# Altium footprint library Mechanical.PcbLib: 8 footprints
Each footprint in its own frame and in the unit in brackets; x right, y up, seen from the top. Pads: shape width x height; smd on the part's side, far side on the other; paste and mask are expansions set on the pad; w line width, h text height; cw(c..) or ccw(c..) is an arc to the next point about the centre after c.
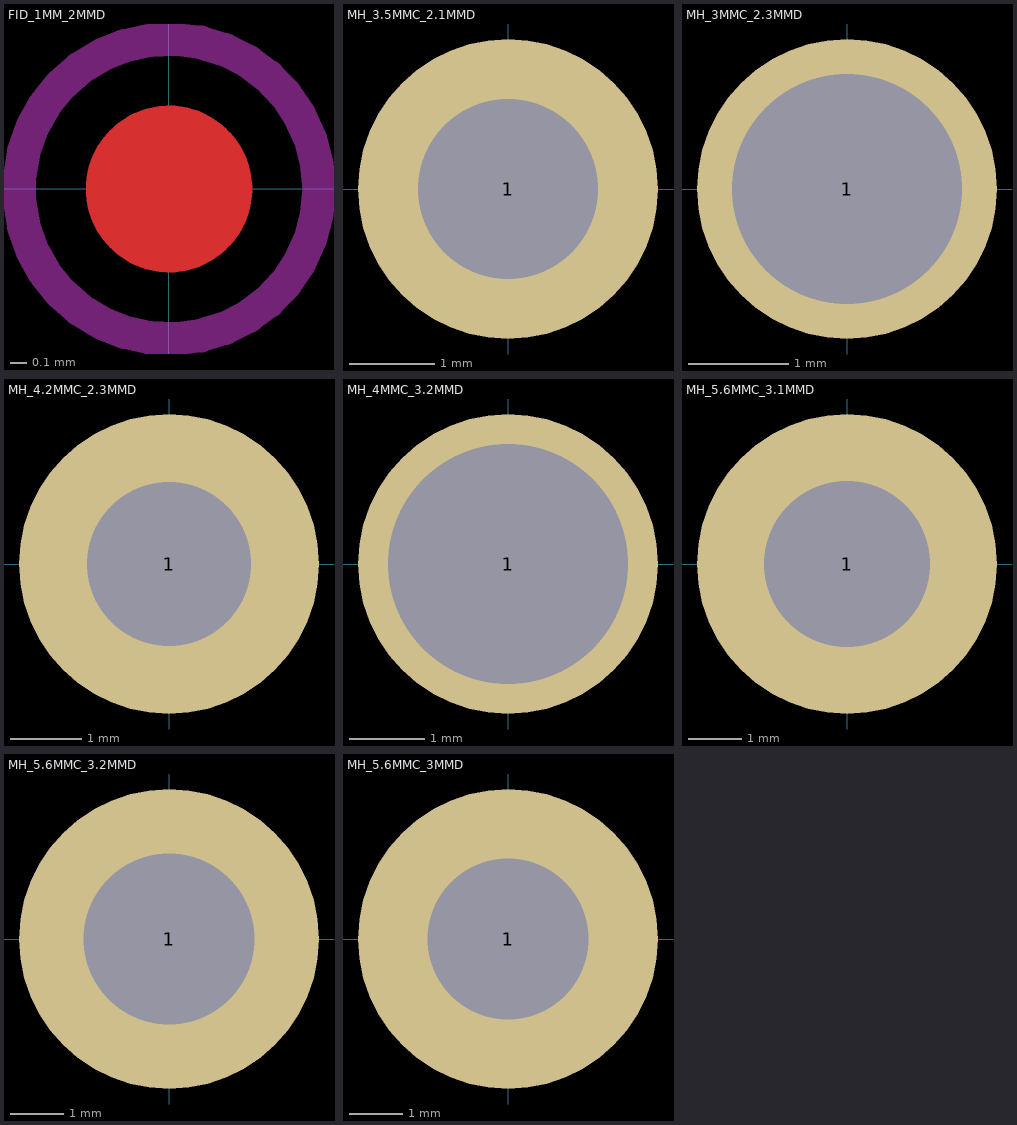
[diagram p0: the footprints below, top view; thin cyan lines are the x and y axes]

## FID_1MM_2MMD [mm]
Top Layer:
  circle w0.5: c0,0 r0.25
Top Layer keep-out:
  circle w0.2: c0,0 r0.9

## MH_3.5MMC_2.1MMD [mm] "Mounting Hole 3.5mm Diameter, 2.1mm Drill"
pads (1):
  round 3.5 hole 2.1 mask+0.025: 1(0,0)

## MH_3MMC_2.3MMD [mm] "Mounting Hole 3mm Diameter, 2.3mm Drill"
pads (1):
  round 3 hole 2.3 mask+0.025: 1(0,0)

## MH_4.2MMC_2.3MMD [mm] "Mounting Hole 4.2mm Diameter, 2.2mm Drill"
pads (1):
  round 4.2 hole 2.3 mask+0.025: 1(0,0)

## MH_4MMC_3.2MMD [mm] "Mounting Hole 4mm Diameter, 3.2mm Drill"
pads (1):
  round 4 hole 3.2 mask+0.025: 1(0,0)

## MH_5.6MMC_3.1MMD [mm] "Mounting Hole 5.6mm Diameter, 3.1mm Drill"
pads (1):
  round 5.6 hole 3.1 mask+0.025: 1(0,0)

## MH_5.6MMC_3.2MMD [mm] "Mounting Hole 5.6mm Diameter, 3.2mm Drill"
pads (1):
  round 5.6 hole 3.2 mask+0.025: 1(0,0)

## MH_5.6MMC_3MMD [mm] "Mounting Hole 5.6mm Diameter, 3mm Drill"
pads (1):
  round 5.6 hole 3 mask+0.025: 1(0,0)